# Altium schematic symbol library SN74LV1T04.SchLib: 1 symbol
Pins are listed as number, name and electrical type; pins without a type are passive.

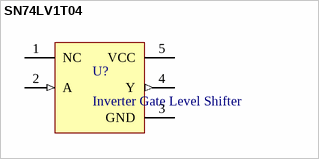
[diagram p0: symbol SN74LV1T04]

## SN74LV1T04
designator U?, comment Inverter Gate Level Shifter
SN74LV1T04 Single Power Supply Inverter Gate CMOS Logic Level Shifter
pins: 1 NC, 2 A (in), 3 GND (power), 4 Y (out), 5 VCC (power)